# Altium footprint library 691250610002.PcbLib: 1 footprints
Each footprint in its own frame and in the unit in brackets; x right, y up, seen from the top. Pads: shape width x height; smd on the part's side, far side on the other; paste and mask are expansions set on the pad; w line width, h text height; cw(c..) or ccw(c..) is an arc to the next point about the centre after c.
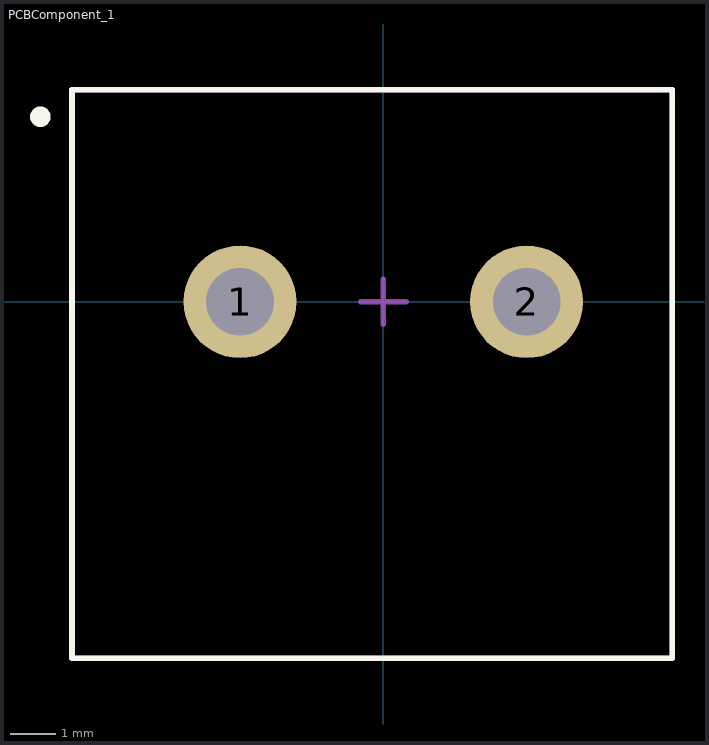
[diagram p0: the footprint, top view; thin cyan lines are the x and y axes]

## PCBComponent_1 [mm]
pads (2):
  round 2.5 hole 1.5: 1(-3.175,0) 2(3.175,0)
Top Overlay:
  circle w0.254: c-7.6,4.1 r0.1
  lines w0.127: -6.9,-7.9 -6.9,4.7 6.4,4.7 6.4,-7.9 -6.9,-7.9
Mechanical 13:
  lines w0.127: -6.9,-7.9 -6.9,4.7 6.4,4.7 6.4,-7.9 -6.9,-7.9
Mechanical 15:
  lines w0.127: -0.5,0 0.5,0 0,0 ; 0,-0.5 0,0 ; 0,0.5 0,0
3D body "691250610002 (rev1).stp": height 21.5, standoff -5, extent -6.9,-7.85 6.4,4.65